# Altium schematic symbol library LED.SchLib: 24 symbols
Pins are listed as number, name and electrical type; pins without a type are passive.

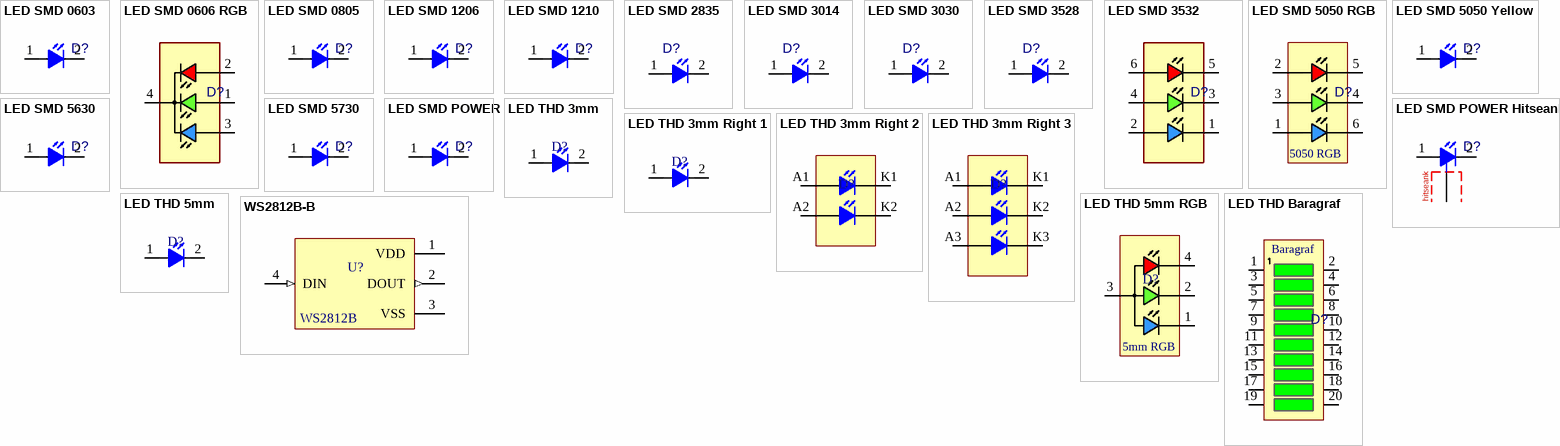
[diagram p0: symbols LED SMD 0603 to WS2812B-B]

## LED SMD 0603
designator D?
LED SMD 0603; DatasheetVersion: 2022
footprint LED SMD 0603 (Blue)
footprint LED SMD 0603 (green)
footprint LED SMD 0603 (Orange)
footprint LED SMD 0603 (Red)
footprint LED SMD 0603 (White)
footprint LED SMD 0603 (Yellow)
footprint LED SMD 0603 2 (Green)
pins: 1 ANODE, 2 CATHODE

## LED SMD 0606 RGB
designator D?
LED SMD 0606 RGB; DatasheetVersion: 2022
footprint LED SMD 0606 (RGB)
pins: 1 GREEN, 2 RED, 3 BLUE, 4 ANODE

## LED SMD 0805
designator D?
LED SMD 0805; DatasheetVersion: 2022
footprint LED SMD 0805 (Blue)
footprint LED SMD 0805 (Green)
footprint LED SMD 0805 (Red)
footprint LED SMD 0805 (White)
footprint LED SMD 0805 (Yellow)
footprint LED SMD 0805 Right (Yellow)
pins: 1 ANODE, 2 CATHODE

## LED SMD 1206
designator D?
LED SMD 1206; DatasheetVersion: 2022
footprint LED SMD 1206 (Blue)
footprint LED SMD 1206 (Green)
footprint LED SMD 1206 (Red)
footprint LED SMD 1206 (White)
footprint LED SMD 1206 (Yellow)
footprint LED SMD 1206 2 (Red)
pins: 1 ANODE, 2 CATHODE

## LED SMD 1210
designator D?
LED SMD 1210; DatasheetVersion: 2022
footprint LED SMD 1210 (Yellow)
pins: 1 ANODE, 2 CATHODE

## LED SMD 2835
designator D?
LED SMD 2835; DatasheetVersion: 2022
footprint LED SMD 2835
pins: 1 ANODE, 2 CATHODE

## LED SMD 3014
designator D?
LED SMD 3014; DatasheetVersion: 2022
footprint LED SMD 3014 (Yellow)
pins: 1 ANODE, 2 CATHODE

## LED SMD 3030
designator D?
LED SMD 3030; DatasheetVersion: 2022
footprint LED SMD 3030 (Yellow)
pins: 1 ANODE, 2 CATHODE

## LED SMD 3528
designator D?
LED SMD 3528; DatasheetVersion: 2022
footprint LED SMD 3528 (White)
footprint LED SMD 3528 (Yellow)
pins: 1 ANODE, 2 CATHODE

## LED SMD 3532
designator D?
LED SMD 3532; DatasheetVersion: 2022
footprint LED SMD 3532 (RGB)
pins: 1 BLUE, 2 ANODE, 3 GREEN, 4 ANODE, 5 RED, 6 ANODE

## LED SMD 5050 RGB
designator D?
LED SMD 5050 RGB; DatasheetVersion: 2022
footprint LED SMD 5050 (RGB)
pins: 1 ANODE, 2 ANODE, 3 ANODE, 4 GREEN, 5 RED, 6 BLUE
text: 5050 RGB

## LED SMD 5050 Yellow
designator D?
LED SMD 5050 Yellow; DatasheetVersion: 2022
footprint LED SMD 5050 (Yellow)
pins: 1 ANODE, 2 CATHODE

## LED SMD 5630
designator D?
LED SMD 5630; DatasheetVersion: 2022
footprint LED SMD 5630 (Yellow)
pins: 1 ANODE, 2 CATHODE

## LED SMD 5730
designator D?
LED SMD 5730; DatasheetVersion: 2022
footprint LED SMD 5730 (Yellow)
pins: 1 ANODE, 2 CATHODE

## LED SMD POWER
designator D?
LED SMD POWER; DatasheetVersion: 2022
footprint Power LED SMD 1-3 Wat
pins: 1 ANODE, 2 CATHODE

## LED SMD POWER Hitseank
designator D?
LED SMD POWER; DatasheetVersion: 2022
footprint Power LED SMD 1-3 Wat hitseank
pins: 1 ANODE, 2 CATHODE, hitseank

## LED THD 3mm
designator D?
LED THD 3mm; DatasheetVersion: 2022
footprint LED THD 3mm (Green)
footprint LED THD 3mm (White)
pins: 1 ANODE, 2 CATHODE

## LED THD 3mm Right 1
designator D?
LED THD 3mm Right 1; DatasheetVersion: 2022
footprint LED THD 3mm Right (Green)
footprint LED THD 3mm Right (Red)
footprint LED THD 3mm Right (Yellow)
pins: 1 ANODE, 2 CATHODE

## LED THD 3mm Right 2
designator D?
LED THD 3mm Right 2; DatasheetVersion: 2022
footprint LED THD 3mm Right * 2 (White)
pins: A1 ANODE, A2 ANODE, K1 RED, K2 GREEN

## LED THD 3mm Right 3
designator D?
LED THD 3mm Right 3; DatasheetVersion: 2022
footprint LED THD 3mm Right * 3 (Green)
pins: A1 ANODE, A2 ANODE, A3 ANODE, K1 RED, K2 GREEN, K3 GREEN

## LED THD 5mm
designator D?
LED THD 5mm; DatasheetVersion: 2022
footprint LED THD 5mm (Blue)
footprint LED THD 5mm (Green)
footprint LED THD 5mm (Purple)
footprint LED THD 5mm (Red)
footprint LED THD 5mm (Yellow)
pins: 1 ANODE, 2 CATHODE

## LED THD 5mm RGB
designator D?
LED THD 5mm RGB; DatasheetVersion: 2022
footprint LED THD 5mm (RGB)
pins: 1 BLUE, 2 GREEN, 3 GND, 4
text: 5mm RGB

## LED THD Baragraf
designator D?
LED THD Baragraf; DatasheetVersion: 2022
footprint LED THD Baragraf
pins: 1 A1, 2 B1, 3 A2, 4 B2, 5 A3, 6 B3, 7 A4, 8 B4, 9 A5, 10 B5, 11 A6, 12 B6, 13 A7, 14 B7, 15 A8, 16 B8, 17 A9, 18 B9, 19 A10, 20 B10
text: Baragraf

## WS2812B-B
designator U?
Intelligent control LED integrated light source; DatasheetVersion: 2022
footprint LED_WS2812B-B
pins: 1 VDD (power), 2 DOUT (out), 3 VSS (power), 4 DIN (in)
text: WS2812B